# EAGLE library part FDC6506P (library 06_FET)
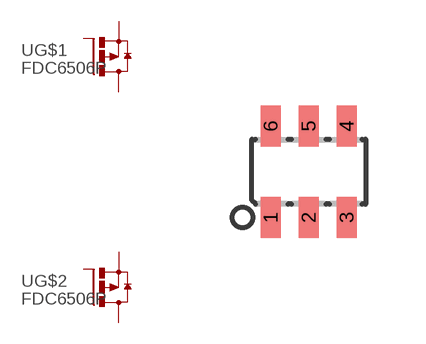
[diagram p1: symbol with the pads of SOT23-6; footprint SOT23-6]

Designator prefix -; gates G$1=P_MOSFET G$2=P_MOSFET

## FDC6506P  [SOT23-6]
1  G$1:G  pas
2  G$2:S  pas
3  G$2:G  pas
4  G$2:D  pas
5  G$1:S  pas
6  G$1:D  pas

## Footprint SOT23-6 (pad centres in mm)
smd 0.508 x 1.016: 1 -0.95,-1.143; 2 0,-1.143; 3 0.95,-1.143; 4 0.95,1.143; 5 0,1.143; 6 -0.95,1.143